# Altium schematic symbol library MergenElektronik_Interfaces_RS232s.SchLib: 1 symbol
Pins are listed as number, name and electrical type; pins without a type are passive.

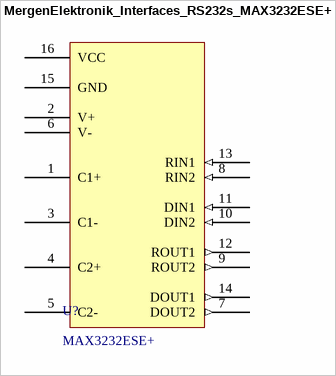
[diagram p0: symbol MergenElektronik_Interfaces_RS232s_MAX3232ESE+]

## MergenElektronik_Interfaces_RS232s_MAX3232ESE+
designator U?, comment MAX3232ESE+
Mergen Elektronik - Interfaces - RS232s - MAX3232ESE+; Manufacturer: Analog Devices Inc./Maxim Integrated; Model: RS232 Interfaces; Protocol: RS232; Operating Supply Voltage: 3V up to 5.5V; Manufacturer Number: MAX3232ESE+; Value: MAX3232ESE+; Mounting Type: Surface Mount; Package: SOIC-16; Temperature: -40°C up to 85°C; Mouser Number: 700-MAX3232ESE; Farnell Number: 2519459; Supplier 1: Digi-Key; Supplier Part Number 1: MAX3232ESE+-ND; Supplier 2: Mouser; Supplier Part Number 2: 700-MAX3232ESE; Digi-Key Number: MAX3232ESE+-ND
footprint MergenElektronik_Interfaces_RS232s_SOIC-16 (SOIC-16)
pins: 1 C1+ (power), 2 V+ (power), 3 C1- (power), 4 C2+ (power), 5 C2- (power), 6 V- (power), 7 DOUT2 (out), 8 RIN2 (in), 9 ROUT2 (out), 10 DIN2 (in), 11 DIN1 (in), 12 ROUT1 (out), 13 RIN1 (in), 14 DOUT1 (out), 15 GND (power), 16 VCC (power)